# Altium footprint library Crazy_PCB.PcbLib: 155 footprints (part 5 of 10)
Each footprint in its own frame and in the unit in brackets; x right, y up, seen from the top. Pads: shape width x height; smd on the part's side, far side on the other; paste and mask are expansions set on the pad; w line width, h text height; cw(c..) or ccw(c..) is an arc to the next point about the centre after c.
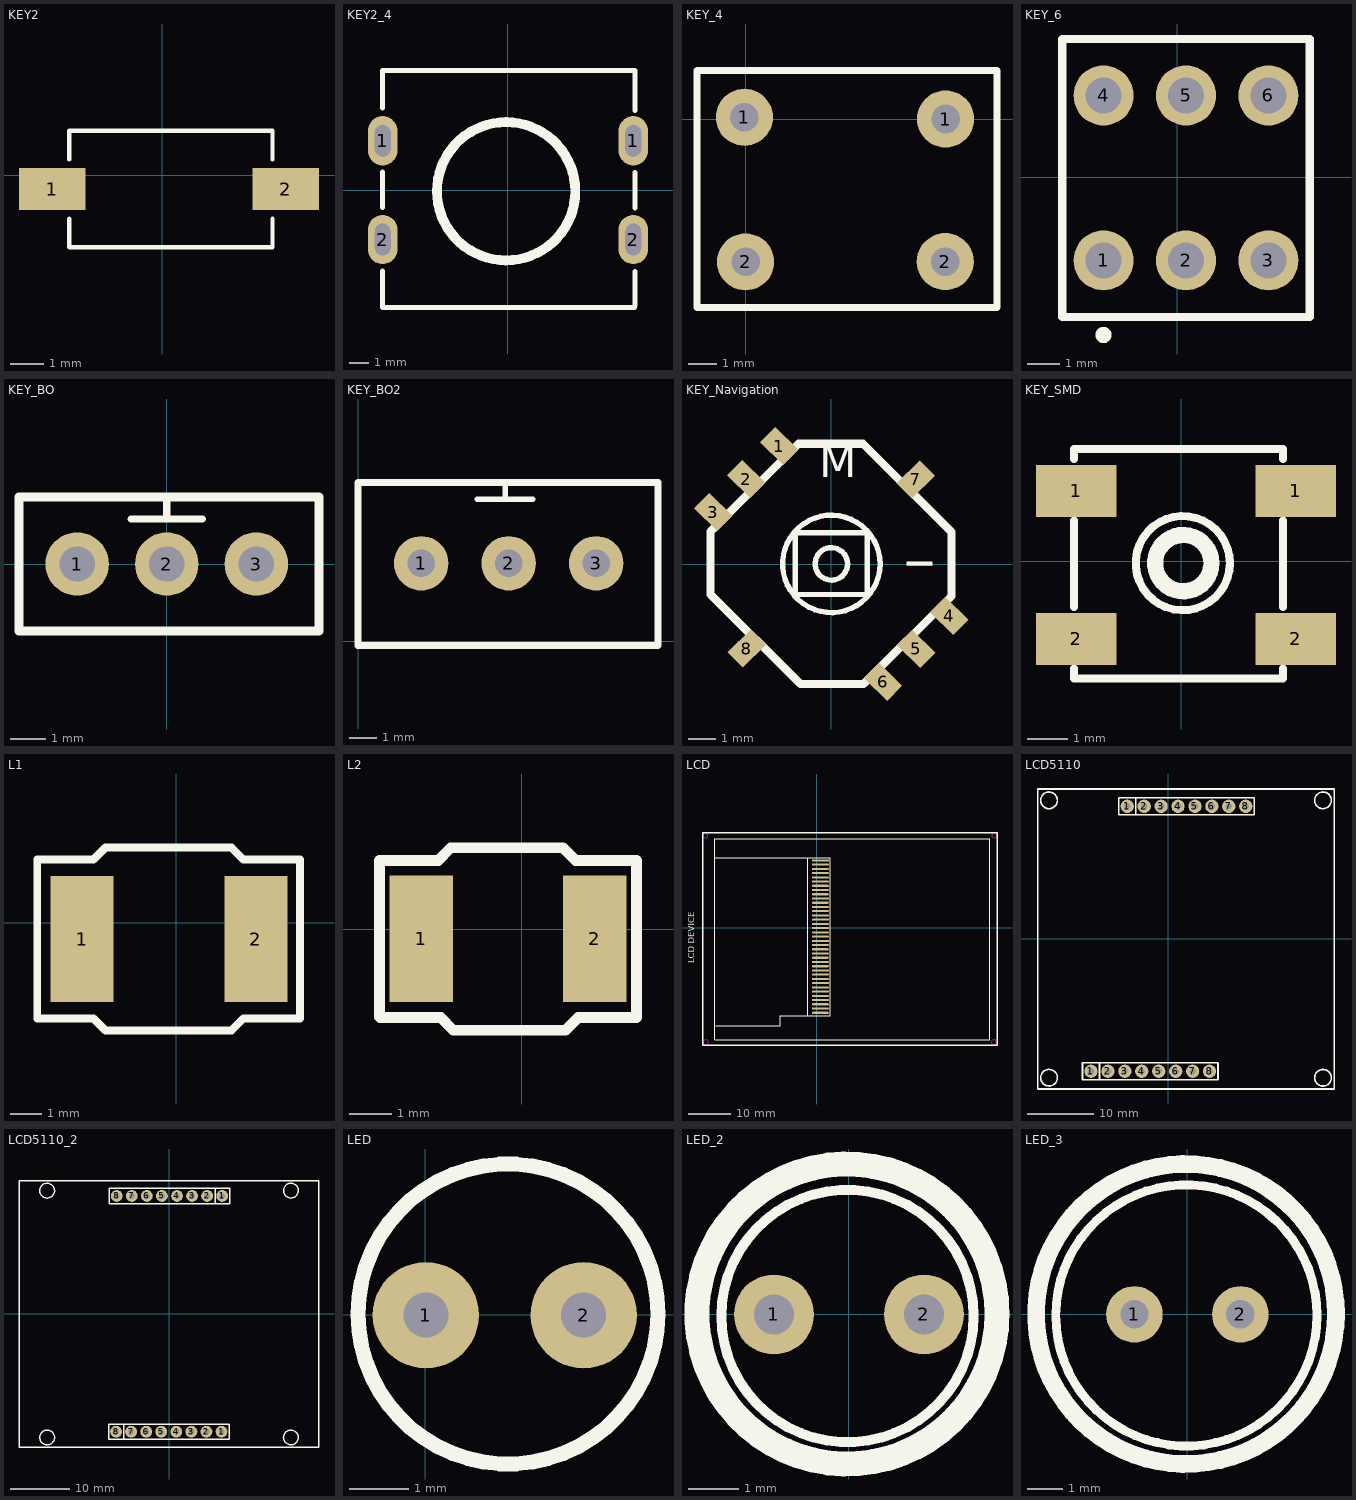
[diagram p4: the footprints below, top view; thin cyan lines are the x and y axes]

## KEY2 [mm]
pads (2):
  rect 2x1.254 smd: 1(-3.291,-0.41) 2(3.709,-0.41)
Top Overlay:
  lines w0.127: -2.783,-1.301 -2.783,-2.16 3.313,-2.16 3.313,-1.301 ; -2.783,0.477 -2.783,1.34 3.313,1.34 3.313,0.477
3D body: height 1, standoff 0, extent -2.846,-2.223 3.377,1.404

## KEY2_4 [mm]
height 5
pads (4):
  oval 1.5x2.5 hole 0.8 slot 1.6 at 90 deg: 1(-6.345,2.5) 1(6.345,2.5) 2(-6.345,-2.5) 2(6.345,-2.5)
Top Overlay:
  circle w0.5: c-0.095,-0.056 r3.5
  lines w0.25: -6.355,-5.942 6.395,-5.942 ; -6.355,-5.94 -6.355,-4.09 ; -6.355,-0.89 -6.355,0.92 ; -6.355,4.15 -6.355,5.96 ; -6.355,6.058 6.38,6.058 ; 6.425,-5.83 6.425,-4.12 ; 6.425,-0.91 6.425,0.9 ; 6.425,4.03 6.425,6.058
3D body: height 7, standoff 3, extent -3.605,-3.566 3.415,3.454
3D body: height 3, standoff 0, extent -6.605,-6.192 6.675,6.308

## KEY_4 [mm]
pads (4):
  round 2 hole 1: 1(-0.04,0.06) 1(7,0) 2(0,-5) 2(6.99,-4.99)
Top Overlay:
  lines w0.25: 8.8,1.7 -1.7,1.7 -1.7,-6.6 8.8,-6.6 8.8,1.7 ; 8.8,1.7 8.8,1.5 8.8,1.7
3D body: height 3, standoff 0, extent -1.825,-6.725 8.925,1.825

## KEY_6 [mm]
pads (6):
  round 1.85 hole 1.1: 1(-2.273,-2.556) 2(0.267,-2.556) 3(2.807,-2.556) 4(-2.273,2.524) 5(0.267,2.524) 6(2.807,2.524)
Top Overlay:
  circle w0.25: c-2.274,-4.852 r0.125
  lines w0.254: -3.543,-4.296 4.077,-4.296 4.077,4.264 -3.543,4.264 -3.543,-4.296
3D body: height 5, standoff 0, extent -3.542,-4.295 4.076,4.263

## KEY_BO [mm] "one of two"
pads (3):
  round 1.8 hole 1: 1(-2.54,0) 2(0,0) 3(2.54,0)
Top Overlay:
  lines w0.2: -1.016,1.27 1.016,1.27 ; 0,1.27 0,1.778
  lines w0.254: -4.191,-1.905 4.309,-1.905 ; -4.191,-1.895 -4.191,1.905 4.309,1.905 ; 4.318,-1.895 4.318,1.905

## KEY_BO2 [mm] "one of two"
pads (3):
  round 2 hole 1: 1(2.322,2.862) 2(5.535,2.862) 3(8.748,2.862)
Top Overlay:
  lines w0.2: 4.384,5.212 6.416,5.212 ; 5.4,5.212 5.4,5.72
  lines w0.254: 0,-0.168 0,5.832 11,5.832 ; 0.016,-0.162 11.016,-0.162 11.016,5.838

## KEY_Navigation [mm]
pads (8):
  rect 0.8x1.2 smd rot 45: 1(-1.92,4.359) 2(-3.14,3.14) 3(-4.359,1.92) 4(4.359,-1.92) 5(3.14,-3.14) 6(1.92,-4.359)
  rect 0.8x1.2 smd rot 135: 7(3.122,3.122) 8(-3.122,-3.122)
Top Overlay:
  circle w0.2: c0.004,0.004 r1.8
  circle w0.2: c0.004,0.004 r0.6
  lines w0.2: -1.337,-1.125 -1.337,1.161 1.33,1.161 1.33,-1.125 -1.337,-1.125
  lines w0.3: -4.458,-1.121 -4.458,1.199 -1.213,4.444 1.177,4.444 4.437,1.184 4.437,-1.191 1.191,-4.437 -1.142,-4.437 -4.458,-1.121
  text "I" at 4.124,-0.236 h2
  text "M" at -0.448,2.812 h2

## KEY_SMD [mm]
pads (4):
  rect 2x1.3 smd: 1(-2.607,1.747) 1(2.854,1.747) 2(-2.607,-1.936) 2(2.854,-1.936)
Top Overlay:
  circle w0.4: c0.055,-0.05 r0.7
  circle w0.2: c0.043,-0.05 r1.171
  lines w0.2: -2.667,-2.667 -2.667,-2.921 2.54,-2.921 2.54,-2.667 ; -2.667,-1.143 -2.667,1.016 ; -2.667,2.54 -2.667,2.794 2.54,2.794 2.54,2.54 ; 2.54,-1.143 2.54,1.016
3D body: height 2.5, standoff 0, extent -2.767,-3.021 2.64,2.894

## L1 [mm]
pads (2):
  rect 2x4 smd: 1(-2.98,-0.52) 2(2.52,-0.52)
Top Overlay:
  lines w0.25: -4.402,-3.035 -4.402,1.995 -2.624,1.995 -2.243,2.376 1.744,2.376 2.125,1.995 3.921,1.995 3.921,-0.52 3.921,-3.035 2.125,-3.035 1.744,-3.416 -2.243,-3.416 -2.624,-3.035 -4.402,-3.035
3D body: height 0, standoff 0, extent -4.082,-2.622 3.622,1.582

## L2 [mm]
pads (2):
  rect 1.5x3 smd: 1(-2.38,-0.22) 2(1.73,-0.22)
Top Overlay:
  lines w0.254: -3.37,-2.07 -3.37,1.63 -1.98,1.63 -1.68,1.93 0.98,1.93 1.28,1.63 2.72,1.63 2.72,-2.09 1.34,-2.09 1.04,-2.39 -1.62,-2.39 -1.92,-2.09 -3.35,-2.09

## LCD [mm]
height 0.254
pads (37):
  rect 4x0.5 smd: 1(0.824,15.943) 10(0.824,6.943) 20(0.824,-3.057) 30(0.824,-13.057)
  oval 4x0.5 smd: 2(0.824,14.943) 3(0.824,13.943) 4(0.824,12.943) 5(0.824,11.943) 6(0.824,10.943) 7(0.824,9.943) 8(0.824,8.943) 9(0.824,7.943) 11(0.824,5.943) 12(0.824,4.943) 13(0.824,3.943) 14(0.824,2.943) 15(0.824,1.943) 16(0.824,0.943) 17(0.824,-0.057) 18(0.824,-1.057) 19(0.824,-2.057) 21(0.824,-4.057) 22(0.824,-5.057) 23(0.824,-6.057) 24(0.824,-7.057) 25(0.824,-8.057) 26(0.824,-9.057) 27(0.824,-10.057) 28(0.824,-11.057) 29(0.824,-12.057) 31(0.824,-14.057) 32(0.824,-15.057) 33(0.824,-16.057) 34(0.824,-17.057) 35(0.824,-18.057) 36(0.824,-19.057) 37(0.824,-20.057)
Top Overlay:
  lines w0.254: -24.068,-20.583 -24.068,16.628 ; -23.941,-23.123 -8.701,-23.123 -8.701,-20.71 3.11,-20.71 3.11,16.628 ; -2.097,-20.71 -2.097,16.628 ; -24.068,16.628 3.11,16.628 ; -24.068,16.628 3.11,16.628 ; -24.068,-26.425 40.829,-26.425 40.829,21.073 -24.068,21.073 -24.068,-26.425
  lines w0.3: -27.007,-27.711 -27.007,22.454 42.568,22.454 42.568,-27.711 -27.007,-27.711
  text "LCD DEVICE" at -28.321,-8.382 h2.5
Keep-Out Layer:
  circle w0.254: c-26.254,-27.051 r0.6
  circle w0.254: c41.818,-27.051 r0.6
  circle w0.254: c41.945,21.844 r0.6
  circle w0.254: c-26.381,21.844 r0.6
3D body: height 2, standoff 0, extent -27.006,-27.71 42.567,22.453

## LCD5110 [mm]
pads (16):
  round 2 hole 1: 1(-11.608,-19.871) 1(-6.172,19.871) 2(-9.068,-19.871) 2(-3.632,19.871) 3(-6.528,-19.871) 3(-1.092,19.871) 4(-3.988,-19.871) 4(1.448,19.871) 5(-1.448,-19.871) 5(3.988,19.871) 6(1.092,-19.871) 6(6.528,19.871) 7(3.632,-19.871) 7(9.068,19.871) 8(6.172,-19.871) 8(11.608,19.871)
Top Overlay:
  lines w0.25: -19.608,22.369 -19.608,-22.529 24.892,-22.529 24.892,22.471 -19.608,22.471 ; -10.338,-21.141 -10.338,-18.601 ; -4.902,18.601 -4.902,21.141 ; -12.878,-21.141 7.442,-21.141 7.442,-18.601 -12.878,-18.601 -12.878,-21.141 ; -7.442,18.601 12.878,18.601 12.878,21.141 -7.442,21.141 -7.442,18.601
  lines w0.254: -17.908,-19.588 ccw(c-17.908,-20.838) -17.79,-19.594 ; -16.664,20.652 cw(c-17.908,20.771) -16.658,20.771 ; 21.943,-20.838 ccw(c23.193,-20.838) 21.948,-20.719 ; 23.074,19.527 cw(c23.193,20.771) 23.193,19.521

## LCD5110_2 [mm]
pads (16):
  round 2 hole 1: 1(8.832,-19.871) 1(8.948,19.871) 2(6.292,-19.871) 2(6.408,19.871) 3(3.752,-19.871) 3(3.868,19.871) 4(1.212,-19.871) 4(1.328,19.871) 5(-1.328,-19.871) 5(-1.212,19.871) 6(-3.868,-19.871) 6(-3.752,19.871) 7(-6.408,-19.871) 7(-6.292,19.871) 8(-8.948,-19.871) 8(-8.832,19.871)
Top Overlay:
  lines w0.25: -7.678,-21.141 -7.678,-18.601 ; 7.75,18.6 7.75,21.14 ; -25.31,-22.529 25.27,-22.529 25.27,22.471 -25.31,22.471 -25.31,-22.529 ; -10.218,-21.141 -10.218,-18.601 10.102,-18.601 10.102,-21.141 -10.218,-21.141 ; -10.102,18.601 -10.102,21.141 10.218,21.141 10.218,18.601 -10.102,18.601
  lines w0.254: -20.568,-19.588 ccw(c-20.568,-20.838) -20.45,-19.594 ; -19.324,20.652 cw(c-20.568,20.771) -19.318,20.771 ; 19.283,-20.838 ccw(c20.533,-20.838) 19.288,-20.719 ; 20.414,19.527 cw(c20.533,20.771) 20.533,19.521

## LED [mm]
pads (2):
  round 1.8 hole 0.762: 1(0.01,-0.01) 2(2.68,-0.01)
Top Overlay:
  circle w0.254: c1.4,0.01 r2.539

## LED_2 [mm]
pads (2):
  round 1.6 hole 0.8: 1(-1.5,0) 2(1.5,0)
Top Overlay:
  circle w0.2: c-0.03,-0.03 r2.523
  circle w0.5: c-0.04,0.01 r3
3D body: height 1, standoff 0, extent -3.049,-2.999 2.969,3.019
3D body: height 9, standoff 1, extent -2.565,-2.565 2.505,2.505

## LED_3 [mm]
pads (2):
  round 1.6 hole 0.8: 1(-1.5,0) 2(1.5,0)
Top Overlay:
  circle w0.5: c-0.04,0.01 r4.25
  circle w0.254: c-0.03,-0.03 r3.7
3D body: height 0.5, standoff 0, extent -3.741,-3.741 3.681,3.681
3D body: height 9.5, standoff 0.5, extent -4.299,-4.249 4.219,4.269